# EAGLE library part SOCKET_QFP80 (library akita)
QFP80, 20x20
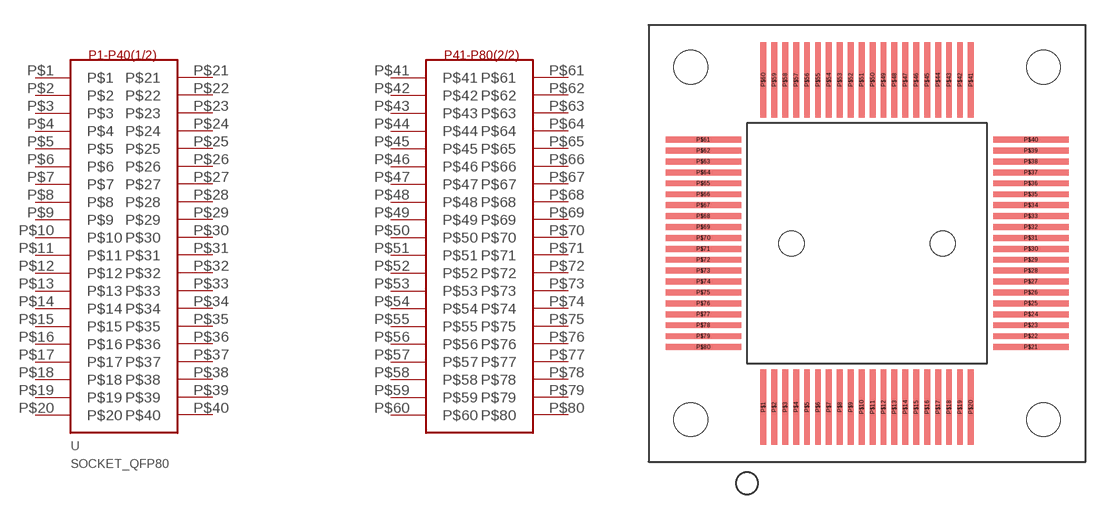
[diagram p143: symbol with the pads of SOCKET_QFP80_065MM; footprint SOCKET_QFP80_065MM]

Designator prefix U

## SOCKET_QFP80065  [SOCKET_QFP80_065MM]
P$1  P$1
P$2  P$2
P$3  P$3
P$4  P$4
P$5  P$5
P$6  P$6
P$7  P$7
P$8  P$8
P$9  P$9
P$10  P$10
P$11  P$11
P$12  P$12
P$13  P$13
P$14  P$14
P$15  P$15
P$16  P$16
P$17  P$17
P$18  P$18
P$19  P$19
P$20  P$20
P$21  P$21
P$22  P$22
P$23  P$23
P$24  P$24
P$25  P$25
P$26  P$26
P$27  P$27
P$28  P$28
P$29  P$29
P$30  P$30
P$31  P$31
P$32  P$32
P$33  P$33
P$34  P$34
P$35  P$35
P$36  P$36
P$37  P$37
P$38  P$38
P$39  P$39
P$40  P$40
P$41  P$41
P$42  P$42
P$43  P$43
P$44  P$44
P$45  P$45
P$46  P$46
P$47  P$47
P$48  P$48
P$49  P$49
P$50  P$50
P$51  P$51
P$52  P$52
P$53  P$53
P$54  P$54
P$55  P$55
P$56  P$56
P$57  P$57
P$58  P$58
P$59  P$59
P$60  P$60
P$61  P$61
P$62  P$62
P$63  P$63
P$64  P$64
P$65  P$65
P$66  P$66
P$67  P$67
P$68  P$68
P$69  P$69
P$70  P$70
P$71  P$71
P$72  P$72
P$73  P$73
P$74  P$74
P$75  P$75
P$76  P$76
P$77  P$77
P$78  P$78
P$79  P$79
P$80  P$80

## Footprint SOCKET_QFP80_065MM (pad centres in mm)
Yamaichi IC149-080-_17-B5, QFP80pin, 0.65mm
smd 0.35 x 4.5: P$1 -6.175,-9.75; P$2 -5.525,-9.75; P$3 -4.875,-9.75; P$4 -4.225,-9.75; P$5 -3.575,-9.75; P$6 -2.925,-9.75; P$7 -2.275,-9.75; P$8 -1.625,-9.75; P$9 -0.975,-9.75; P$10 -0.325,-9.75; P$11 0.325,-9.75; P$12 0.975,-9.75; P$13 1.625,-9.75; P$14 2.275,-9.75; P$15 2.925,-9.75; P$16 3.575,-9.75; P$17 4.225,-9.75; P$18 4.875,-9.75; P$19 5.525,-9.75; P$20 6.175,-9.75; P$41 6.175,9.75; P$42 5.525,9.75; P$43 4.875,9.75; P$44 4.225,9.75; P$45 3.575,9.75; P$46 2.925,9.75; P$47 2.275,9.75; P$48 1.625,9.75; P$49 0.975,9.75; P$50 0.325,9.75; P$51 -0.325,9.75; P$52 -0.975,9.75; P$53 -1.625,9.75; P$54 -2.275,9.75; P$55 -2.925,9.75; P$56 -3.575,9.75; P$57 -4.225,9.75; P$58 -4.875,9.75; P$59 -5.525,9.75; P$60 -6.175,9.75
smd 4.5 x 0.35: P$21 9.75,-6.175; P$22 9.75,-5.525; P$23 9.75,-4.875; P$24 9.75,-4.225; P$25 9.75,-3.575; P$26 9.75,-2.925; P$27 9.75,-2.275; P$28 9.75,-1.625; P$29 9.75,-0.975; P$30 9.75,-0.325; P$31 9.75,0.325; P$32 9.75,0.975; P$33 9.75,1.625; P$34 9.75,2.275; P$35 9.75,2.925; P$36 9.75,3.575; P$37 9.75,4.225; P$38 9.75,4.875; P$39 9.75,5.525; P$40 9.75,6.175; P$61 -9.75,6.175; P$62 -9.75,5.525; P$63 -9.75,4.875; P$64 -9.75,4.225; P$65 -9.75,3.575; P$66 -9.75,2.925; P$67 -9.75,2.275; P$68 -9.75,1.625; P$69 -9.75,0.975; P$70 -9.75,0.325; P$71 -9.75,-0.325; P$72 -9.75,-0.975; P$73 -9.75,-1.625; P$74 -9.75,-2.275; P$75 -9.75,-2.925; P$76 -9.75,-3.575; P$77 -9.75,-4.225; P$78 -9.75,-4.875; P$79 -9.75,-5.525; P$80 -9.75,-6.175
hole 1.5 at 4.5,0
hole 1.5 at -4.5,0
hole 2 at 10.5,10.5
hole 2 at 10.5,-10.5
hole 2 at -10.5,-10.5
hole 2 at -10.5,10.5